# Altium integrated library Analog Devices Data Converters Analog-to-Digital Converters.IntLib: 2404 symbols (part 53 of 346)
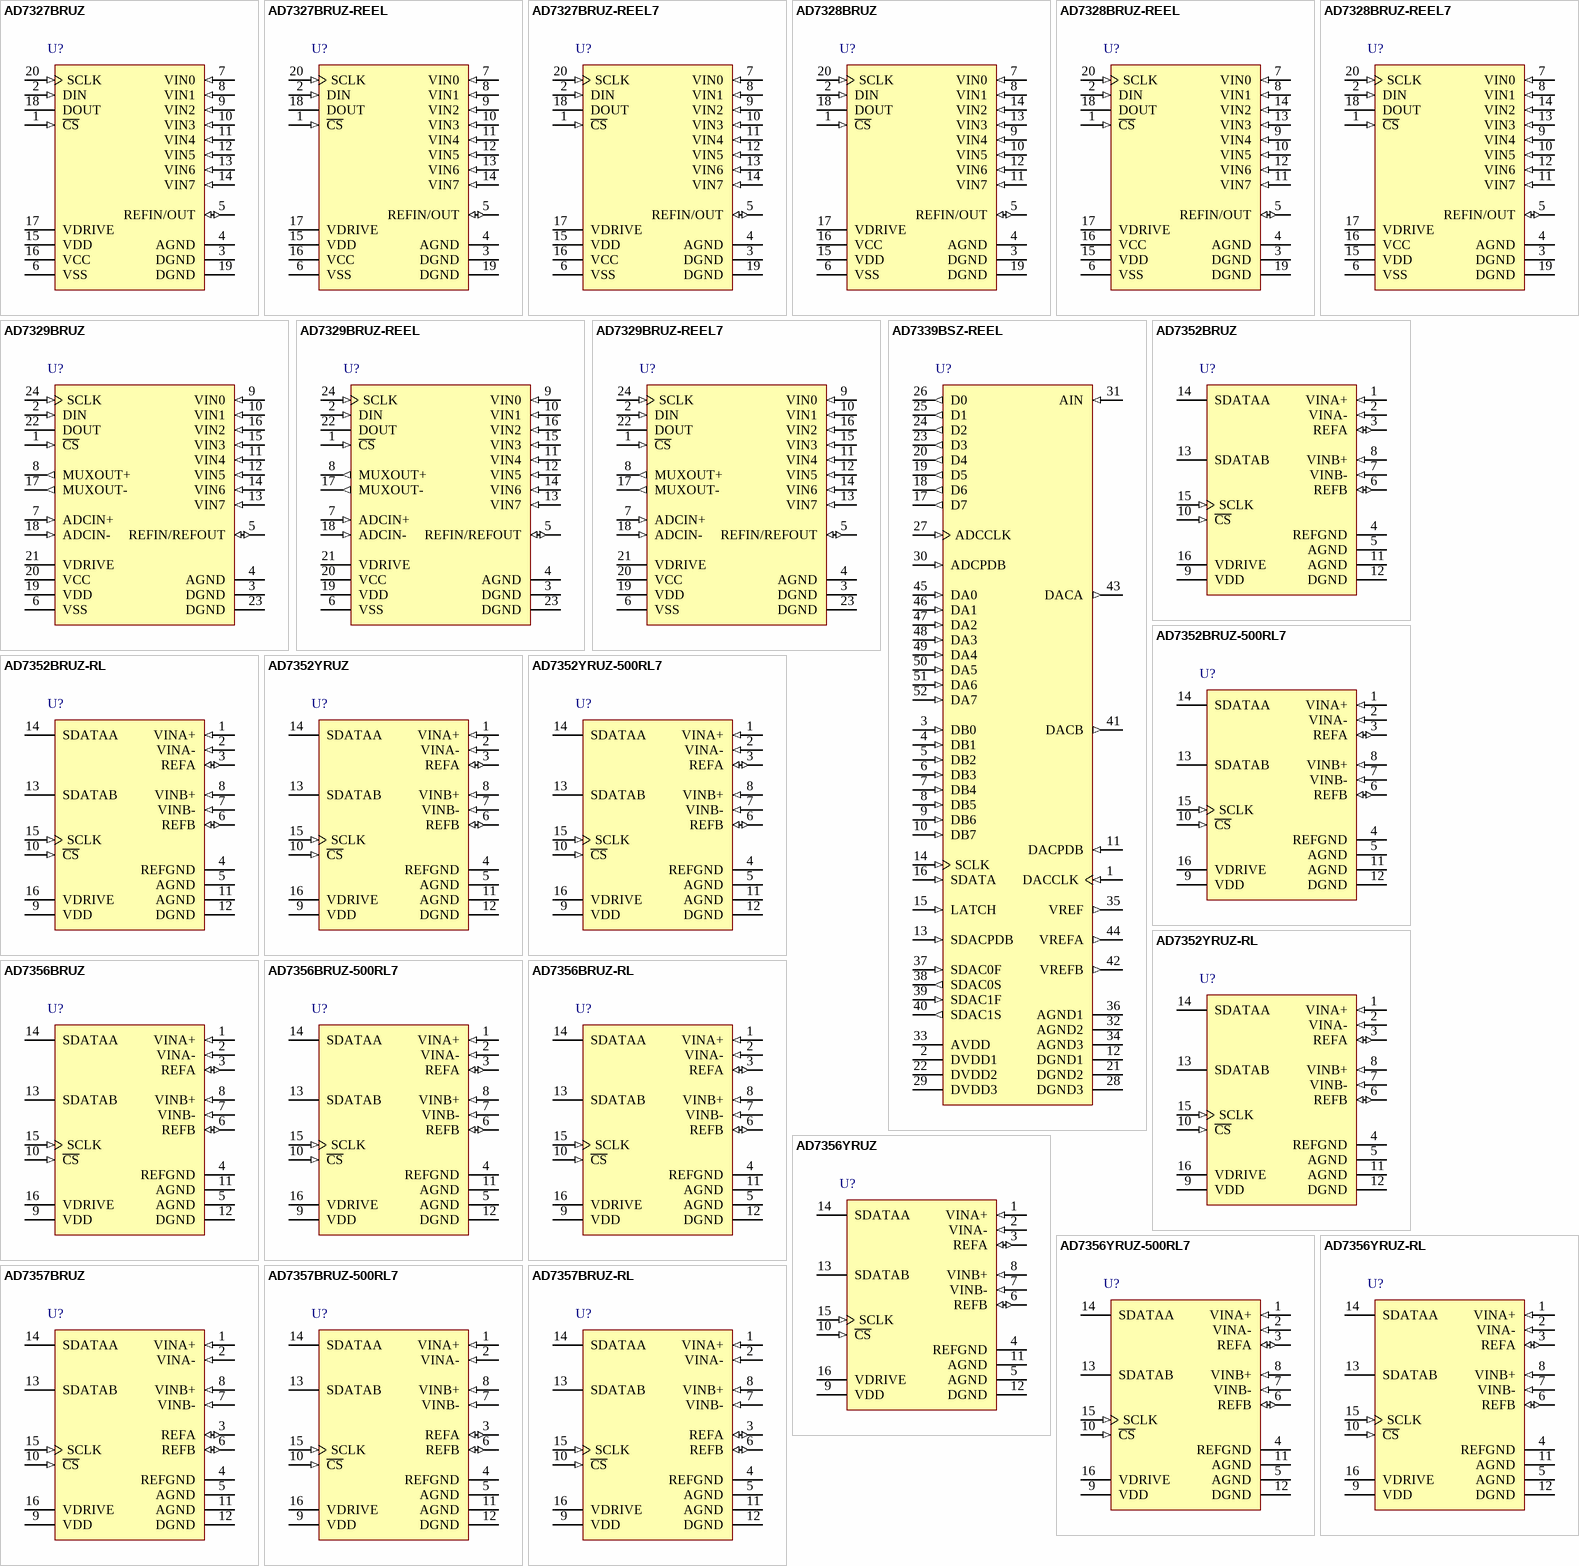
[diagram p284: symbols AD7327BRUZ to AD7357BRUZ-RL]

## AD7356BRUZ-RL
designator U?
Dual 12-Bit SAR Analog-to-Digital Converter with Serial, SPI Interface, Simultaneous Sampling, 5MSPS, -40 to +85 degC, RU-16, Pb-Free, Reel; Generic Part Number: AD7356; Manufacturer: Analog Devices; PartNumber: AD7356BRUZ-RL; Resolution (Bits): 12; Channels: 2; Throughput Rate (SPS): 5M; Interface: Ser, SPI; DatasheetVersion: Rev.A; PackageVersion: Nov-2002; PackageReference: RU-16; PackageDescription: 16-Lead Thin Shrink Small Outline Package [TSSOP]; Supplier 1: Digi-Key; Supplier Part Number 1: AD7356BRUZ-RL-ND; Supplier 2: Mouser; Supplier Part Number 2: 584-AD7356BRUZ-R; RoHS: Y; Packing: Reel; Mounting Technology: Surface Mount; Code_JEDEC: MO-153-AB; ComponentLink1Description: Manufacturer URL; ComponentLink1URL: http://www.analog.com/en/index.html; ComponentLink2Description: Datasheet; ComponentLink2URL: http://www.analog.com/static/imported-files/data_sheets/AD7356.pdf; ComponentLink3Description: Package Specification; ComponentLink3URL: http://www.analog.com/static/imported-files/packages/36244347913743854010197452789RU16.pdf; ComponentLink4Description: Product URL; ComponentLink4URL: http://www.analog.com/en/analog-to-digital-converters/ad-converters/ad7356/products/product.html
footprint RU-16_N (TSOP, 16-Leads, Body 5x4.4mm, Pitch 0.65mm, IPC Medium Density)
footprint RU-16_L (TSOP, 16-Leads, Body 5x4.4mm, Pitch 0.65mm, IPC High Density)
footprint RU-16_M (TSOP, 16-Leads, Body 5x4.4mm, Pitch 0.65mm, IPC Low Density)
pins: 1 VINA+ (in) "Analog Inputs of ADC A. These analog inputs form a fully differential pair.", 2 VINA- (in) "Analog Inputs of ADC A. These analog inputs form a fully differential pair.", 3 REFA (io) "Reference Decoupling Capacitor Pins. Decoupling capacitors are connected between these pins and the REFGND pin to decouple the reference buffer for each respective ADC. It is recommended to decouple each reference pin with a (See Datasheet)", 4 REFGND (power) "Reference Ground. This is the ground reference point for the reference circuitry on the AD7356. Refer any external reference signal to this REFGND voltage. Decoupling capacitors must be placed between this pin and the REFA (See Datasheet)", 5 AGND (power) "Analog Ground. This is the ground reference point for all analog circuitry on the AD7356. All analog input signals should be referred to this AGND voltage. The AGND and DGND voltages should ideally be at the same potential (See Datasheet)", 6 REFB (io) "Reference Decoupling Capacitor Pins. Decoupling capacitors are connected between these pins and the REFGND pin to decouple the reference buffer for each respective ADC. It is recommended to decouple each reference pin with a (See Datasheet)", 7 VINB- (in) "Analog Inputs of ADC B. These analog inputs form a fully differential pair.", 8 VINB+ (in) "Analog Inputs of ADC B. These analog inputs form a fully differential pair.", 9 VDD (power) "Power Supply Input. The VDD range for the AD7356 is 2.5 V +/- 10%. Decouple the supply to AGND with a 0.1uF capacitor in parallel with a 10uF tantalum capacitor.", 10 ~{CS} (in) "Chip Select. Active low logic input. This input provides the dual functions of initiating conversions on the AD7356 and framing the serial data transfer.", 11 AGND (power) "Analog Ground. This is the ground reference point for all analog circuitry on the AD7356. All analog input signals should be referred to this AGND voltage. The AGND and DGND voltages should ideally be at the same potential (See Datasheet)", 12 DGND (power) "Digital Ground. This is the ground reference point for all digital circuitry on the AD7356. Connect this pin to the DGND plane of a system. The DGND and AGND voltages should ideally be at the same potential and must not be (See Datasheet)", 13 SDATAB (hiz) "Serial Data Outputs. The data output is supplied to each pin as a serial data stream. The bits are clocked out on the falling edge of the SCLK input. To access the 12 bits of data from the AD7356, 14 SCLK falling edges are (See Datasheet)", 14 SDATAA (hiz) "Serial Data Outputs. The data output is supplied to each pin as a serial data stream. The bits are clocked out on the falling edge of the SCLK input. To access the 12 bits of data from the AD7356, 14 SCLK falling edges are (See Datasheet)", 15 SCLK (in) "Serial Clock. Logic input. A serial clock input provides the serial clock for accessing the data from the AD7356. This clock is also used as the clock source for the conversion process.", 16 VDRIVE (power) "Logic Power Supply Input. The voltage supplied at this pin determines at what voltage the interface operates. The voltage at this pin may be different than the voltage at VDD. The VDRIVE supply should be decoupled to DGND (See Datasheet)"

## AD7356YRUZ
designator U?
Dual 12-Bit SAR Analog-to-Digital Converter with Serial, SPI Interface, Simultaneous Sampling, 5MSPS, -40 to +125 degC, RU-16, Pb-Free, Tube; Generic Part Number: AD7356; Manufacturer: Analog Devices; PartNumber: AD7356YRUZ; Resolution (Bits): 12; Channels: 2; Throughput Rate (SPS): 5M; Interface: Ser, SPI; DatasheetVersion: Rev.A; PackageVersion: Nov-2002; PackageReference: RU-16; PackageDescription: 16-Lead Thin Shrink Small Outline Package [TSSOP]; Supplier 1: Digi-Key; Supplier Part Number 1: AD7356YRUZ-ND; Supplier 2: Newark; Supplier Part Number 2: 34P3193; Supplier 3: Mouser; Supplier Part Number 3: 584-AD7356YRUZ; RoHS: Y; Packing: Tube; Mounting Technology: Surface Mount; Code_JEDEC: MO-153-AB; ComponentLink1Description: Manufacturer URL; ComponentLink1URL: http://www.analog.com/en/index.html; ComponentLink2Description: Datasheet; ComponentLink2URL: http://www.analog.com/static/imported-files/data_sheets/AD7356.pdf; ComponentLink3Description: Package Specification; ComponentLink3URL: http://www.analog.com/static/imported-files/packages/36244347913743854010197452789RU16.pdf; ComponentLink4Description: Product URL; ComponentLink4URL: http://www.analog.com/en/analog-to-digital-converters/ad-converters/ad7356/products/product.html
footprint RU-16_N (TSOP, 16-Leads, Body 5x4.4mm, Pitch 0.65mm, IPC Medium Density)
footprint RU-16_L (TSOP, 16-Leads, Body 5x4.4mm, Pitch 0.65mm, IPC High Density)
footprint RU-16_M (TSOP, 16-Leads, Body 5x4.4mm, Pitch 0.65mm, IPC Low Density)
pins: 1 VINA+ (in) "Analog Inputs of ADC A. These analog inputs form a fully differential pair.", 2 VINA- (in) "Analog Inputs of ADC A. These analog inputs form a fully differential pair.", 3 REFA (io) "Reference Decoupling Capacitor Pins. Decoupling capacitors are connected between these pins and the REFGND pin to decouple the reference buffer for each respective ADC. It is recommended to decouple each reference pin with a (See Datasheet)", 4 REFGND (power) "Reference Ground. This is the ground reference point for the reference circuitry on the AD7356. Refer any external reference signal to this REFGND voltage. Decoupling capacitors must be placed between this pin and the REFA (See Datasheet)", 5 AGND (power) "Analog Ground. This is the ground reference point for all analog circuitry on the AD7356. All analog input signals should be referred to this AGND voltage. The AGND and DGND voltages should ideally be at the same potential (See Datasheet)", 6 REFB (io) "Reference Decoupling Capacitor Pins. Decoupling capacitors are connected between these pins and the REFGND pin to decouple the reference buffer for each respective ADC. It is recommended to decouple each reference pin with a (See Datasheet)", 7 VINB- (in) "Analog Inputs of ADC B. These analog inputs form a fully differential pair.", 8 VINB+ (in) "Analog Inputs of ADC B. These analog inputs form a fully differential pair.", 9 VDD (power) "Power Supply Input. The VDD range for the AD7356 is 2.5 V +/- 10%. Decouple the supply to AGND with a 0.1uF capacitor in parallel with a 10uF tantalum capacitor.", 10 ~{CS} (in) "Chip Select. Active low logic input. This input provides the dual functions of initiating conversions on the AD7356 and framing the serial data transfer.", 11 AGND (power) "Analog Ground. This is the ground reference point for all analog circuitry on the AD7356. All analog input signals should be referred to this AGND voltage. The AGND and DGND voltages should ideally be at the same potential (See Datasheet)", 12 DGND (power) "Digital Ground. This is the ground reference point for all digital circuitry on the AD7356. Connect this pin to the DGND plane of a system. The DGND and AGND voltages should ideally be at the same potential and must not be (See Datasheet)", 13 SDATAB (hiz) "Serial Data Outputs. The data output is supplied to each pin as a serial data stream. The bits are clocked out on the falling edge of the SCLK input. To access the 12 bits of data from the AD7356, 14 SCLK falling edges are (See Datasheet)", 14 SDATAA (hiz) "Serial Data Outputs. The data output is supplied to each pin as a serial data stream. The bits are clocked out on the falling edge of the SCLK input. To access the 12 bits of data from the AD7356, 14 SCLK falling edges are (See Datasheet)", 15 SCLK (in) "Serial Clock. Logic input. A serial clock input provides the serial clock for accessing the data from the AD7356. This clock is also used as the clock source for the conversion process.", 16 VDRIVE (power) "Logic Power Supply Input. The voltage supplied at this pin determines at what voltage the interface operates. The voltage at this pin may be different than the voltage at VDD. The VDRIVE supply should be decoupled to DGND (See Datasheet)"